# EAGLE library part 74LVC573A (library Parts for D-DAQ)
74LVC573A, 8.5 ns @ 3.3 V Octal Transparent D-type latch
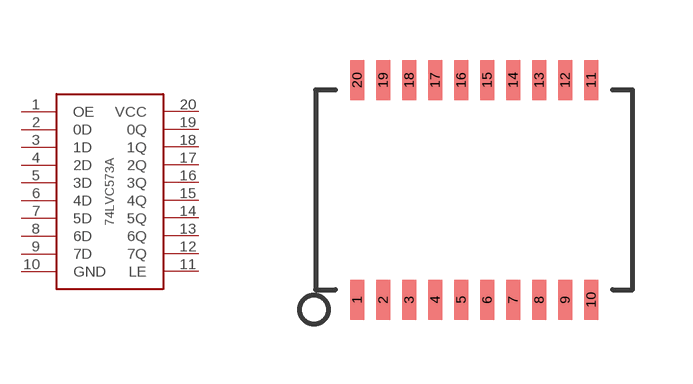
[diagram p3: symbol with the pads of TSSOP-20; footprint TSSOP-20]

Designator prefix -

## 74LVC573A  [TSSOP-20]
1  OE  in
2  0D  in
3  1D  in
4  2D  in
5  3D  in
6  4D  in
7  5D  in
8  6D  in
9  7D  in
10  GND  pwr
11  LE  in
12  7Q  out
13  6Q  out
14  5Q  out
15  4Q  out
16  3Q  out
17  2Q  out
18  1Q  out
19  0Q  out
20  VCC  pwr

## Footprint TSSOP-20 (pad centres in mm)
smd 0.35 x 1: 1 -2.925,-2.75; 2 -2.275,-2.75; 3 -1.625,-2.75; 4 -0.975,-2.75; 5 -0.325,-2.75; 6 0.325,-2.75; 7 0.975,-2.75; 8 1.625,-2.75; 9 2.275,-2.75; 10 2.925,-2.75; 11 2.925,2.75; 12 2.275,2.75; 13 1.625,2.75; 14 0.975,2.75; 15 0.325,2.75; 16 -0.325,2.75; 17 -0.975,2.75; 18 -1.625,2.75; 19 -2.275,2.75; 20 -2.925,2.75